# EAGLE library part ICD (library Eagle_Lib_IUT)
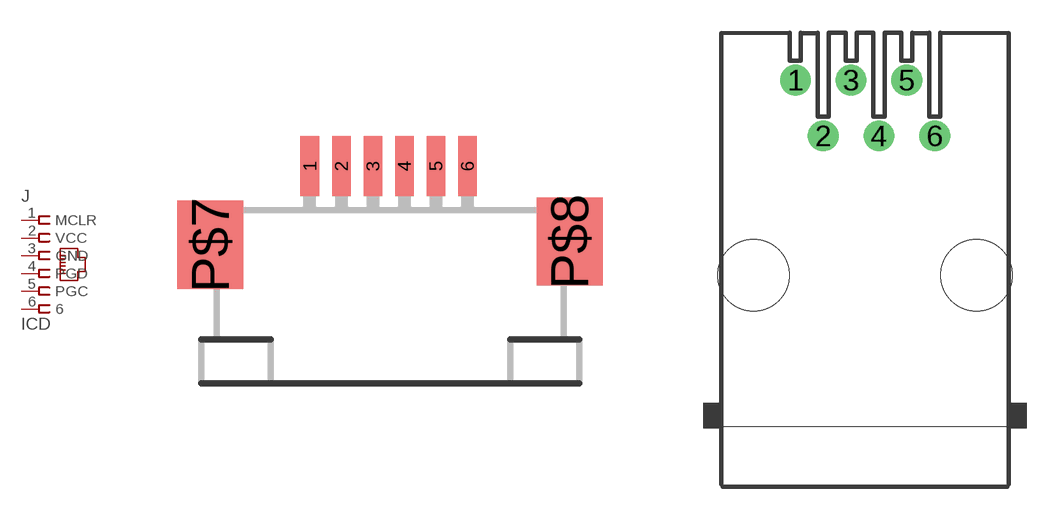
[diagram p4: symbol with the pads of 52207-0690; footprints 52207-0690, 520250-3]

Designator prefix J

## ICD-FFC  [52207-0690]
1  MCLR  pas
2  VCC  pas
3  GND  pas
4  PGD  pas
5  PGC  pas
6  6  pas

## ICD-RJ  [520250-3]
Pads as for 52207-0690

## ICD-SIL  [MA06-1]
Pads as for 52207-0690

## ICD-SIL-90  [MA06-1W]
Pads as for 52207-0690

## Footprint 52207-0690 (pad centres in mm)
FFC/FPC-to-Board 0.50mm (.020") SMT Top Contact Right Angle, ZIF, Style Receptacle 52745 / 52435 Source: http://www.molex.com/product/ffc/52745.html
smd 0.6 x 1.9: 1 -2.5,3.8; 2 -1.5,3.8; 3 -0.5,3.8; 4 0.5,3.8; 5 1.5,3.8; 6 2.5,3.8
smd 2.1 x 2.8: P$7 -5.66,1.3; P$8 5.74,1.4

## Footprint 520250-3 (pad centres in mm)
Modular Jack with Panel Stops
drill 0.889: 1 -3.175,8.89; 2 -1.905,6.35; 3 -0.635,8.89; 4 0.635,6.35; 5 1.905,8.89; 6 3.175,6.35
hole 3.251 at -5.08,0
hole 3.251 at 5.08,0

## Footprint MA06-1 (pad centres in mm)
PIN HEADER
drill 1.016 long: 1 -6.35,0; 2 -3.81,0; 3 -1.27,0; 4 1.27,0; 5 3.81,0; 6 6.35,0

## Footprint MA06-1W (pad centres in mm)
PIN HEADER
drill 1.016 long: 1 -6.35,-2.54; 2 -3.81,-2.54; 3 -1.27,-2.54; 4 1.27,-2.54; 5 3.81,-2.54; 6 6.35,-2.54